# Altium schematic symbol library EXB-38V101JV.SchLib: 1 symbol
Pins are listed as number, name and electrical type; pins without a type are passive.

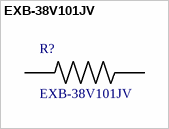
[diagram p0: symbol EXB-38V101JV]

## EXB-38V101JV
designator R?
100 Ohm Â±5% 62.5mW Power Per Element Isolated Resistor Network/Array Â±200ppm/Â°C 1206 _3216 Metric_, Convex, Long Side Terminals; MF: Panasonic; Digi-Key_Purchase_URL: https://www.digikey.ca/product-detail/en/panasonic-electronic-components/EXB-38V101JV/Y9101CT-ND/256580?utm_source=snapeda&utm_medium=aggregator&utm_campaign=symbol; Digi-Key_Part_Number: Y9101CT-ND; SnapEDA_Link: https://www.snapeda.com/parts/EXB-38V101JV/Panasonic%20Electronic%20Components/view-part/290878/?ref=snap; Package: 1206 Panasonic; MP: EXB-38V101JV; Value: *
footprint *RESCAXS80P320X160X60_8N
pins: 1, 2